# Altium footprint library PCB1.PcbLib: 35 footprints (part 2 of 3)
Each footprint in its own frame and in the unit in brackets; x right, y up, seen from the top. Pads: shape width x height; smd on the part's side, far side on the other; paste and mask are expansions set on the pad; w line width, h text height; cw(c..) or ccw(c..) is an arc to the next point about the centre after c.
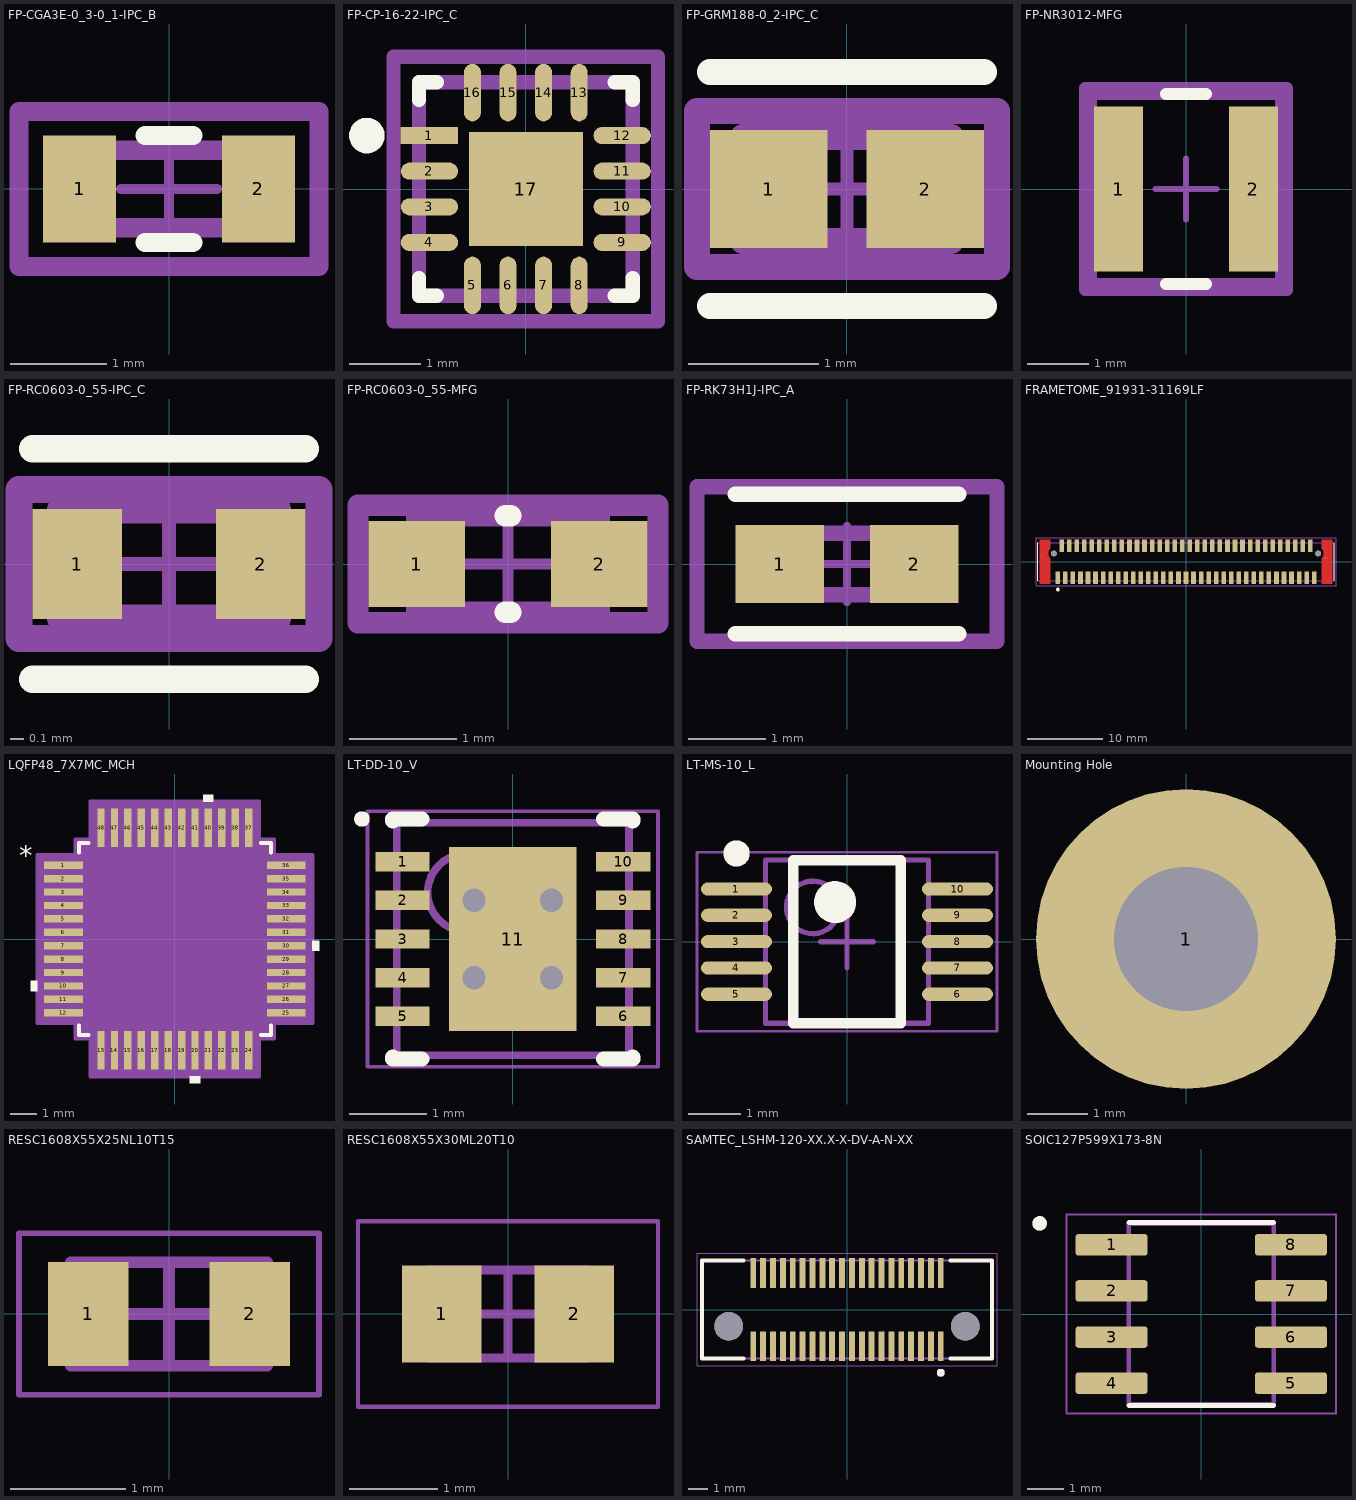
[diagram p1: the footprints below, top view; thin cyan lines are the x and y axes]

## FP-CGA3E-0_3-0_1-IPC_B [mm]
pads (2):
  rect 0.756x1.106 smd paste+0 mask+0: 1(-0.925,0) 2(0.925,0)
Top Overlay:
  lines w0.2: -0.247,-0.553 0.247,-0.553 ; -0.247,0.553 0.247,0.553
Top Assembly:
  lines w0.2: -1.553,-0.803 1.553,-0.803 1.553,0.803 -1.553,0.803 -1.553,-0.803
  text ".Designator" at 0,0.188 h1
Top 3D Body:
  lines w0.2: -0.8,-0.4 0.8,-0.4 0.8,0.4 -0.8,0.4 -0.8,-0.4
Top Courtyard:
  lines w0.2: -1.553,-0.803 1.553,-0.803 1.553,0.803 -1.553,0.803 -1.553,-0.803
Top Component Center:
  lines w0.1: -0.5,0 0.5,0 ; 0,-0.5 0,0.5
3D body "Cap_TDK_CGA3E3X7R1E334K080AB_eec.STEP": height 0.25, standoff 0, extent -1.553,-0.803 1.553,0.803

## FP-CP-16-22-IPC_C [mm]
pads (17):
  rect 0.806x0.239 smd paste+0 mask+0: 1(-1.353,0.75)
  rrect100% 0.806x0.239 smd paste+0 mask+0: 2(-1.353,0.25) 3(-1.353,-0.25) 4(-1.353,-0.75) 9(1.353,-0.75) 10(1.353,-0.25) 11(1.353,0.25) 12(1.353,0.75)
  rrect100% 0.239x0.806 smd paste+0 mask+0: 5(-0.75,-1.353) 6(-0.25,-1.353) 7(0.25,-1.353) 8(0.75,-1.353) 13(0.75,1.353) 14(0.25,1.353) 15(-0.25,1.353) 16(-0.75,1.353)
  rect 1.6x1.6 smd paste-1000 mask+0: 17(0,0)
Top Overlay:
  circle w0.25: c-2.231,0.75 r0.125
  lines w0.2: -1.5,-1.25 -1.5,-1.5 -1.25,-1.5 ; -1.5,1.25 -1.5,1.5 -1.25,1.5 ; 1.25,-1.5 1.5,-1.5 1.5,-1.25 ; 1.25,1.5 1.5,1.5 1.5,1.25
Top Paste:
  rectangle: -0.506,-0.506 0.506,0.506
Top Assembly:
  lines w0.2: -1.856,-1.856 -1.856,1.856 1.856,1.856 1.856,-1.856 -1.856,-1.856
  text ".Designator" at 0.12,0.37 h0.75
Top 3D Body:
  lines w0.2: -1.5,-1.5 -1.5,1.5 1.5,1.5 1.5,-1.5 -1.5,-1.5
Top Courtyard:
  lines w0.2: -1.856,-1.856 -1.856,1.856 1.856,1.856 1.856,-1.856 -1.856,-1.856
Top Component Center:
  lines w0.1: -0.5,0 0.5,0 ; 0,-0.5 0,0.5
3D body "IC_Analog_Devices_AD8338ACPZ-R7_eec.STEP": height 0.25, standoff 0, extent -1.856,-1.856 1.856,1.856

## FP-GRM188-0_2-IPC_C [mm]
pads (2):
  rect 0.905x0.906 smd paste+0 mask+0: 1(-0.601,0) 2(0.601,0)
Top Overlay:
  lines w0.2: -1.053,-0.9 1.053,-0.9 ; -1.053,0.9 1.053,0.9
Top Assembly:
  lines w0.2: -1.153,-0.6 1.153,-0.6 1.153,0.6 -1.153,0.6 -1.153,-0.6
  text ".Designator" at 0.12,0.37 h0.75
Top 3D Body:
  lines w0.2: -0.8,-0.4 0.8,-0.4 0.8,0.4 -0.8,0.4 -0.8,-0.4
Top Courtyard:
  lines w0.2: -1.153,-0.6 1.153,-0.6 1.153,0.6 -1.153,0.6 -1.153,-0.6
Top Component Center:
  lines w0.1: -0.5,0 0.5,0 ; 0,-0.5 0,0.5
3D body "Cap_Murata_GRM188C71C225KE11D_eec.STEP": height 1, standoff 0, extent -0.8,-0.4 0.8,0.4

## FP-NR3012-MFG [mm]
pads (2):
  rect 0.8x2.7 smd paste+0 mask+0: 1(-1.1,0) 2(1.1,0)
Top Overlay:
  lines w0.2: -0.325,-1.55 0.325,-1.55 ; -0.325,1.55 0.325,1.55
Top Assembly:
  lines w0.2: -1.65,-1.65 -1.65,1.65 1.65,1.65 1.65,-1.65 -1.65,-1.65
  text ".Designator" at 0.12,0.37 h0.75
Top 3D Body:
  lines w0.2: -1.55,-1.55 -1.55,1.55 1.55,1.55 1.55,-1.55 -1.55,-1.55
Top Courtyard:
  lines w0.2: -1.65,-1.65 -1.65,1.65 1.65,1.65 1.65,-1.65 -1.65,-1.65
Top Component Center:
  lines w0.1: -0.5,0 0.5,0 ; 0,-0.5 0,0.5
3D body "Ind_Taiyo_Yuden_NR3012T1R0N_eec.STEP": height 1.2, standoff 0, extent -1.5,-1.5 1.5,1.5

## FP-RC0603-0_55-IPC_C [mm]
pads (2):
  rect 0.659x0.812 smd paste+0 mask+0: 1(-0.677,0) 2(0.677,0)
Top Overlay:
  lines w0.2: -1.006,-0.85 1.006,-0.85 ; -1.006,0.85 1.006,0.85
Top Assembly:
  lines w0.2: -1.106,-0.55 -1.106,0.55 1.106,0.55 1.106,-0.55 -1.106,-0.55
  text ".Designator" at 0.12,0.37 h0.75
Top 3D Body:
  lines w0.2: -0.8,-0.4 -0.8,0.4 0.8,0.4 0.8,-0.4 -0.8,-0.4
Top Courtyard:
  lines w0.2: -1.106,-0.55 -1.106,0.55 1.106,0.55 1.106,-0.55 -1.106,-0.55
Top Component Center:
  lines w0.1: -0.5,0 0.5,0 ; 0,-0.5 0,0.5
3D body "Res_Yageo_RC0603FR-07100KL_eec.STEP": height 0.55, standoff 0, extent -0.8,-0.4 0.8,0.4

## FP-RC0603-0_55-MFG [mm]
pads (2):
  rect 0.9x0.8 smd paste+0 mask+0: 1(-0.85,0) 2(0.85,0)
Top Overlay:
  lines w0.2: -0.025,-0.45 0.025,-0.45 ; -0.025,0.45 0.025,0.45
Top Assembly:
  lines w0.2: -1.4,-0.55 -1.4,0.55 1.4,0.55 1.4,-0.55 -1.4,-0.55
  text ".Designator" at 0.12,0.37 h0.75
Top 3D Body:
  lines w0.2: -0.85,-0.45 -0.85,0.45 0.85,0.45 0.85,-0.45 -0.85,-0.45
Top Courtyard:
  lines w0.2: -1.4,-0.55 -1.4,0.55 1.4,0.55 1.4,-0.55 -1.4,-0.55
Top Component Center:
  lines w0.1: -0.5,0 0.5,0 ; 0,-0.5 0,0.5
3D body "Res_Yageo_RC0603FR-07100KL_eec.STEP": height 0.55, standoff 0, extent -0.8,-0.4 0.8,0.4

## FP-RK73H1J-IPC_A [mm]
pads (2):
  rect 1.156x1.012 smd paste+0 mask+0: 1(-0.875,0) 2(0.875,0)
Top Overlay:
  lines w0.2: -1.453,-0.906 1.453,-0.906 ; -1.453,0.906 1.453,0.906
Top Assembly:
  lines w0.2: -1.953,-1.006 1.953,-1.006 1.953,1.006 -1.953,1.006 -1.953,-1.006
  text ".Designator" at 0,0.188 h1
Top 3D Body:
  lines w0.2: -0.8,-0.4 0.8,-0.4 0.8,0.4 -0.8,0.4 -0.8,-0.4
Top Courtyard:
  lines w0.2: -1.953,-1.006 1.953,-1.006 1.953,1.006 -1.953,1.006 -1.953,-1.006
Top Component Center:
  lines w0.1: -0.5,0 0.5,0 ; 0,-0.5 0,0.5
3D body "Res_KOA_Speer_RK73H1JTTD1000F_eec.STEP": height 0.25, standoff 0, extent -1.953,-1.006 1.953,1.006

## FRAMETOME_91931-31169LF [mm]
pads (73):
  rect 0.61x1.63 smd paste-2: 1(-17,-2.11) 2(-16,-2.11) 3(-15,-2.11) 4(-14,-2.11) 5(-13,-2.11) 6(-12,-2.11) 7(-11,-2.11) 8(-10,-2.11) 9(-9,-2.11) 10(-8,-2.11) 11(-7,-2.11) 12(-6,-2.11) 13(-5,-2.11) 14(-4,-2.11) 15(-3,-2.11) 16(-2,-2.11) 17(-1,-2.11) 18(0,-2.11) 19(1,-2.11) 20(2,-2.11) 21(3,-2.11) 22(4,-2.11) 23(5,-2.11) 24(6,-2.11) 25(7,-2.11) 26(8,-2.11) 27(9,-2.11) 28(10,-2.11) 29(11,-2.11) 30(12,-2.11) 31(13,-2.11) 32(14,-2.11) 33(15,-2.11) 34(16,-2.11) 35(17,-2.11) 36(-16.5,2.11) 37(-15.5,2.11) 38(-14.5,2.11) 39(-13.5,2.11) 40(-12.5,2.11) 41(-11.5,2.11) 42(-10.5,2.11) 43(-9.5,2.11) 44(-8.5,2.11) 45(-7.5,2.11) 46(-6.5,2.11) 47(-5.5,2.11) 48(-4.5,2.11) 49(-3.5,2.11) 50(-2.5,2.11) 51(-1.5,2.11) 52(-0.5,2.11) 53(0.5,2.11) 54(1.5,2.11) 55(2.5,2.11) 56(3.5,2.11) 57(4.5,2.11) 58(5.5,2.11) 59(6.5,2.11) 60(7.5,2.11) 61(8.5,2.11) 62(9.5,2.11) 63(10.5,2.11) 64(11.5,2.11) 65(12.5,2.11) 66(13.5,2.11) 67(14.5,2.11) 68(15.5,2.11) 69(16.5,2.11)
  rect 0.1x0.1 smd paste-1 mask+0: B1(18.5,0.5) B2(-19.14,0.7)
  round 0.76 hole 0.76 unplated: ""(-17.526,1.1) ""(17.526,1.1)
Top Layer:
  region: 19.42,-2.92 18.02,-2.92 18.02,0.465 18.052,0.5 18.082,0.536 18.11,0.574 18.137,0.614 18.161,0.654 18.183,0.696 18.203,0.739 18.221,0.783 18.236,0.828 18.249,0.873 18.26,0.919 18.269,0.966 18.275,1.013 18.278,1.06 18.28,1.108 18.278,1.155 18.275,1.202 18.269,1.249 18.26,1.296 18.249,1.342 18.236,1.387 18.221,1.432 18.203,1.476 18.183,1.519 18.161,1.561 18.137,1.601 18.11,1.641 18.082,1.679 18.052,1.715 18.02,1.75 18.02,2.93 19.42,2.93
  region: -18.02,1.745 -18.052,1.71 -18.082,1.674 -18.11,1.636 -18.137,1.596 -18.161,1.556 -18.183,1.514 -18.203,1.471 -18.221,1.427 -18.236,1.382 -18.249,1.337 -18.26,1.291 -18.269,1.244 -18.275,1.197 -18.278,1.15 -18.28,1.102 -18.278,1.055 -18.275,1.008 -18.269,0.961 -18.26,0.914 -18.249,0.868 -18.236,0.823 -18.221,0.778 -18.203,0.734 -18.183,0.691 -18.161,0.649 -18.137,0.609 -18.11,0.569 -18.082,0.531 -18.052,0.495 -18.02,0.46 -18.02,-2.925 -19.42,-2.925 -19.42,2.925 -18.02,2.925
Top Overlay:
  circle w0.3: c-17,-3.675 r0.1
  lines w0.152: -19.65,-2.5 -19.65,2.5 ; 19.65,-2.5 19.65,2.5
Top Paste:
  drawing of 71 lines, arcs and shapes, not listed
Top Solder:
  region: 19.52,-3.026 17.929,-3.026 17.929,3.025 19.52,3.025
  region: -17.92,-3.029 -19.544,-3.029 -19.544,3.025 -17.92,3.025
Top 3D Body:
  lines w0.152: -19.65,-2.5 -19.65,2.5 19.65,2.5 19.65,-2.5 -19.65,-2.5
Top Courtyard:
  lines w0.05: -19.9,-3.175 -19.9,3.175 19.9,3.175 19.9,-3.175 -19.9,-3.175

## LQFP48_7X7MC_MCH [mil]
pads (48):
  rect 57.56x11 smd paste+0 mask+0: 1(-166,110) 2(-166,90) 3(-166,70) 4(-166,50) 5(-166,30) 6(-166,10) 7(-166,-10) 8(-166,-30) 9(-166,-50) 10(-166,-70) 11(-166,-90) 12(-166,-110) 25(166,-110) 26(166,-90) 27(166,-70) 28(166,-50) 29(166,-30) 30(166,-10) 31(166,10) 32(166,30) 33(166,50) 34(166,70) 35(166,90) 36(166,110)
  rect 11x57.56 smd paste+0 mask+0: 13(-110,-166) 14(-90,-166) 15(-70,-166) 16(-50,-166) 17(-30,-166) 18(-10,-166) 19(10,-166) 20(30,-166) 21(50,-166) 22(70,-166) 23(90,-166) 24(110,-166) 37(110,166) 38(90,166) 39(70,166) 40(50,166) 41(30,166) 42(10,166) 43(-10,166) 44(-30,166) 45(-50,166) 46(-70,166) 47(-90,166) 48(-110,166)
Top Overlay:
  region: -204.78,-62.5 -214.78,-62.5 -214.78,-77.5 -204.78,-77.5
  region: 37.5,-204.78 22.5,-204.78 22.5,-214.78 37.5,-214.78
  region: 204.78,-2.5 214.78,-2.5 214.78,-17.5 204.78,-17.5
  region: 57.5,204.78 42.5,204.78 42.5,214.78 57.5,214.78
  lines w6: -143,-128.6 -143,-143 -128.6,-143 ; -143,128.6 -143,143 -128.6,143 ; 128.6,-143 143,-143 143,-128.6 ; 128.6,143 143,143 143,128.6
  text "*" at -232.28,110 h29.53
Top 3D Body:
  drawing of 197 lines, arcs and shapes, not listed
  text "*" at -135.5,95 h29.53
Top Courtyard:
  region: -125.5,-148 -148,-148 -148,-125.5 -204.78,-125.5 -204.78,125.5 -148,125.5 -148,148 -125.5,148 -125.5,204.78 125.5,204.78 125.5,148 148,148 148,125.5 204.78,125.5 204.78,-125.5 148,-125.5 148,-148 125.5,-148 125.5,-204.78 -125.5,-204.78
  lines w6: -204.78,-125.5 -148,-125.5 -148,-148 -125.5,-148 -125.5,-204.78 125.5,-204.78 125.5,-148 148,-148 148,-125.5 204.78,-125.5 204.78,125.5 148,125.5 148,148 125.5,148 125.5,204.78 -125.5,204.78 -125.5,148 -148,148 -148,125.5 -204.78,125.5 -204.78,-125.5
3D body "LQFP48_7X7MC_MCH.step": height 63.11, standoff 0, extent -180.98,-180.98 180.98,180.98

## LT-DD-10_V [mm]
pads (11):
  rect 0.7x0.25 smd mask+0.05: 1(-1.425,1) 2(-1.425,0.5) 3(-1.425,0) 4(-1.425,-0.5) 5(-1.425,-1) 6(1.425,-1) 7(1.425,-0.5) 8(1.425,0) 9(1.425,0.5) 10(1.425,1)
  rect 1.65x2.38 smd mask+0.05: 11(0,0)
via 0.5,-0.5 diameter 0.62 hole 0.3
via -0.5,-0.5 diameter 0.62 hole 0.3
via 0.5,0.5 diameter 0.62 hole 0.3
via -0.5,0.5 diameter 0.62 hole 0.3
Top Overlay:
  circle w0.1: c-1.95,1.55 r0.05
  lines w0.2: -1.55,-1.525 -1.55,-1.55 -1.175,-1.55 ; -1.55,1.525 -1.55,1.55 -1.175,1.55 ; 1.175,-1.55 1.55,-1.55 1.55,-1.525 ; 1.175,1.55 1.55,1.55 1.55,1.525
Top 3D Body:
  circle w0.1: c-0.6,0.6 r0.5
  lines w0.1: -1.5,-1.5 1.5,-1.5 1.5,1.5 -1.5,1.5 -1.5,-1.5
Top Courtyard:
  lines w0.05: -1.875,-1.65 1.875,-1.65 1.875,1.65 -1.875,1.65 -1.875,-1.65
  lines w0.1: -0.5,0 0.5,0 ; 0,-0.5 0,0.5
3D body: height 0.8, standoff 0, extent -1.5,-1.5 1.5,1.5

## LT-MS-10_L [mm]
pads (10):
  oval 1.35x0.25 smd: 1(-2.1,1) 2(-2.1,0.5) 3(-2.1,0) 4(-2.1,-0.5) 5(-2.1,-1) 6(2.1,-1) 7(2.1,-0.5) 8(2.1,0) 9(2.1,0.5) 10(2.1,1)
Top Overlay:
  circle w0.25: c-2.1,1.675 r0.125
  circle w0.4: c-0.225,0.75 r0.2
  lines w0.2: -1.025,-1.55 -1.025,1.55 1.025,1.55 1.025,-1.55 -1.025,-1.55
Top 3D Body:
  circle w0.1: c-0.65,0.65 r0.5
  lines w0.1: -1.55,-1.55 -1.55,1.55 1.55,1.55 1.55,-1.55 -1.55,-1.55
Top Courtyard:
  lines w0.05: -2.85,-1.7 -2.85,1.7 2.85,1.7 2.85,-1.7 -2.85,-1.7
  lines w0.1: -0.5,0 0.5,0 ; 0,-0.5 0,0.5
3D body: height 1.1, standoff 0.05, extent -1.55,-1.55 1.55,1.55

## Mounting Hole [mm]
pads (1):
  round 5 / inner round 3 / far side round 5 hole 2.4: 1(0,0)
Top Solder:
  circle w1.9: c0,0 r0.95
Bottom Solder:
  circle w1.9: c0,0 r0.95

## RESC1608X55X25NL10T15 [mm]
pads (2):
  rect 0.7x0.9 smd: 1(-0.7,0) 2(0.7,0)
Top 3D Body:
  lines w0.1: -0.85,-0.45 0.85,-0.45 0.85,0.45 -0.85,0.45 -0.85,-0.45
Top Courtyard:
  lines w0.05: -1.3,-0.7 1.3,-0.7 1.3,0.7 -1.3,0.7 -1.3,-0.7
  lines w0.1: -0.45,0 0.45,0 ; 0,-0.45 0,0.45
3D body: height 0.55, standoff 0, extent 0.6,-0.45 0.85,0.45
3D body: height 0.55, standoff 0, extent -0.85,-0.45 -0.6,0.45
3D body: height 0.55, standoff 0, extent -0.6,-0.45 0.6,0.45

## RESC1608X55X30ML20T10 [mm]
pads (2):
  rect 0.9x1.1 smd: 1(-0.75,0) 2(0.75,0)
Top 3D Body:
  lines w0.1: -0.9,-0.5 0.9,-0.5 0.9,0.5 -0.9,0.5 -0.9,-0.5
Top Courtyard:
  lines w0.05: -1.7,-1.05 1.7,-1.05 1.7,1.05 -1.7,1.05 -1.7,-1.05
  lines w0.1: -0.5,0 0.5,0 ; 0,-0.5 0,0.5
3D body: height 0.55, standoff 0, extent 0.6,-0.5 0.9,0.5
3D body: height 0.55, standoff 0, extent -0.9,-0.5 -0.6,0.5
3D body: height 0.55, standoff 0, extent -0.6,-0.5 0.6,0.5

## SAMTEC_LSHM-120-XX.X-X-DV-A-N-XX [mm]
pads (42):
  rect 0.3x1.5 smd mask+0.05: 01(4.75,-1.85) 02(4.75,1.85) 03(4.25,-1.85) 04(4.25,1.85) 05(3.75,-1.85) 06(3.75,1.85) 07(3.25,-1.85) 08(3.25,1.85) 09(2.75,-1.85) 10(2.75,1.85) 11(2.25,-1.85) 12(2.25,1.85) 13(1.75,-1.85) 14(1.75,1.85) 15(1.25,-1.85) 16(1.25,1.85) 17(0.75,-1.85) 18(0.75,1.85) 19(0.25,-1.85) 20(0.25,1.85) 21(-0.25,-1.85) 22(-0.25,1.85) 23(-0.75,-1.85) 24(-0.75,1.85) 25(-1.25,-1.85) 26(-1.25,1.85) 27(-1.75,-1.85) 28(-1.75,1.85) 29(-2.25,-1.85) 30(-2.25,1.85) 31(-2.75,-1.85) 32(-2.75,1.85) 33(-3.25,-1.85) 34(-3.25,1.85) 35(-3.75,-1.85) 36(-3.75,1.85) 37(-4.25,-1.85) 38(-4.25,1.85) 39(-4.75,-1.85) 40(-4.75,1.85)
  round 1.45 hole 1.45 unplated: ""(-6,-0.85) ""(6,-0.85)
Top Overlay:
  circle w0.2: c4.75,-3.2 r0.1
  lines w0.2: -5.25,-2.49 -7.35,-2.49 -7.35,2.49 -5.25,2.49 ; 5.25,-2.49 7.35,-2.49 7.35,2.49 5.25,2.49
Top 3D Body:
  circle w0.2: c4.75,-3.2 r0.1
  lines w0.1: -7.35,-2.49 7.35,-2.49 7.35,2.49 -7.35,2.49 -7.35,-2.49
Top Courtyard:
  lines w0.05: -7.6,-2.85 7.6,-2.85 7.6,2.85 -7.6,2.85 -7.6,-2.85
3D body "LSHM-120-02.5-L-DV-A-N-K-TR.stp": height 4.11, standoff -0.84, extent -7.4,-2.49 7.4,2.49

## SOIC127P599X173-8N [mm]
pads (8):
  rrect25% 1.98x0.59 smd: 1(-2.47,1.905) 2(-2.47,0.635) 3(-2.47,-0.635) 4(-2.47,-1.905) 5(2.47,-1.905) 6(2.47,-0.635) 7(2.47,0.635) 8(2.47,1.905)
Top Overlay:
  circle w0.2: c-4.45,2.495 r0.1
  lines w0.127: -1.995,-2.52 1.995,-2.52 ; -1.995,2.52 1.995,2.52
Top 3D Body:
  circle w0.2: c-4.45,2.495 r0.1
  lines w0.127: -1.995,-2.49 1.995,-2.49 1.995,2.49 -1.995,2.49 -1.995,-2.49
Top Courtyard:
  lines w0.05: -3.71,-2.74 3.71,-2.74 3.71,2.74 -3.71,2.74 -3.71,-2.74
3D body "step_temp.STEP": height 1.75, standoff 0, extent -3,-2.45 3,2.45